# Altium schematic symbol library Power-DCDC-PW5150.SchLib: 1 symbol
Pins are listed as number, name and electrical type; pins without a type are passive.

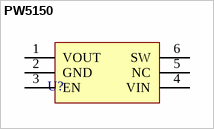
[diagram p0: symbol PW5150]

## PW5150
designator U?
pins: 1 VOUT, 2 GND, 3 EN, 4 VIN, 5 NC, 6 SW